# Altium footprint library PcbLib1.PcbLib: 3 footprints
Each footprint in its own frame and in the unit in brackets; x right, y up, seen from the top. Pads: shape width x height; smd on the part's side, far side on the other; paste and mask are expansions set on the pad; w line width, h text height; cw(c..) or ccw(c..) is an arc to the next point about the centre after c.
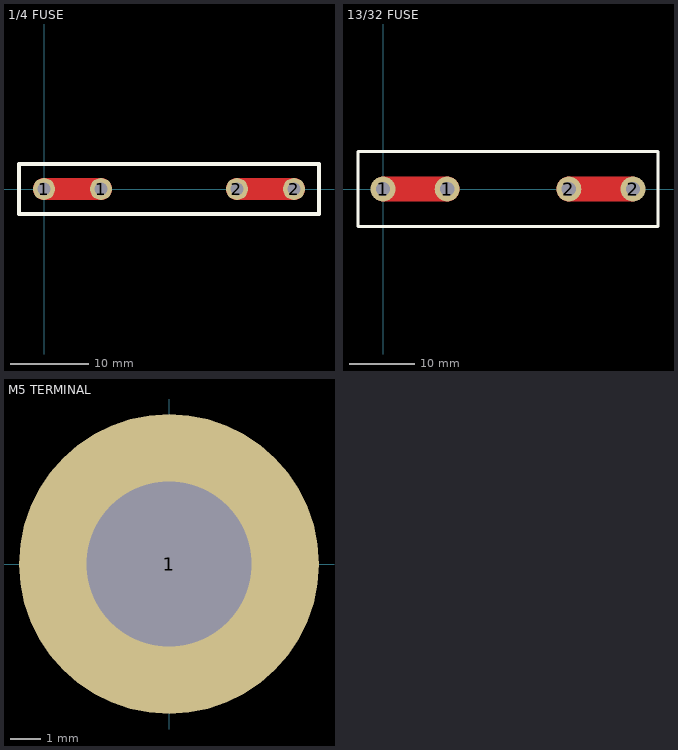
[diagram p0: the footprints below, top view; thin cyan lines are the x and y axes]

## 1/4 FUSE [mil]
pads (4):
  round 110 hole 65: 1(0,0) 1(285,0) 2(965,0) 2(1250,0)
Top Layer:
  lines w110: 0,0 285,0 ; 965,0 1250,0
Top Overlay:
  lines w20: -125,-125 -125,125 1375,125 1375,-125 -125,-125

## 13/32 FUSE [mil]
pads (4):
  round 150 hole 85: 1(0,0) 1(385,0) 2(1115,0) 2(1500,0)
Top Layer:
  lines w150: 5,0 385,0 ; 1115,0 1490,0
Top Overlay:
  lines w20: 1500,225 1650,225 1650,-225 0,-225 -150,-225 -150,225 1525,225

## M5 TERMINAL [mm]
pads (1):
  round 10 hole 5.5: 1(0,0)